# Altium integrated library 430182043816.IntLib: 1 symbol
Pins are listed as number, name and electrical type; pins without a type are passive.

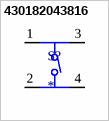
[diagram p0: symbol 430182043816]

## 430182043816
designator S?
6*6mm vertical type, SMT, height 4.3mm, black actuator, 160gf, T&R; MF: Wurth Electronics; MP: 430182043816; SnapEDA_Link: https://www.snapeda.com/parts/430182043816/Wurth+Electronics/view-part/?ref=snap; Package: None; Value: *; Check_prices: https://www.snapeda.com/parts/430182043816/Wurth+Electronics/view-part/?ref=eda
footprint 430182043816
pins: 1, 2, 3, 4